# Altium footprint library 61200621621.PcbLib: 1 footprints
Each footprint in its own frame and in the unit in brackets; x right, y up, seen from the top. Pads: shape width x height; smd on the part's side, far side on the other; paste and mask are expansions set on the pad; w line width, h text height; cw(c..) or ccw(c..) is an arc to the next point about the centre after c.
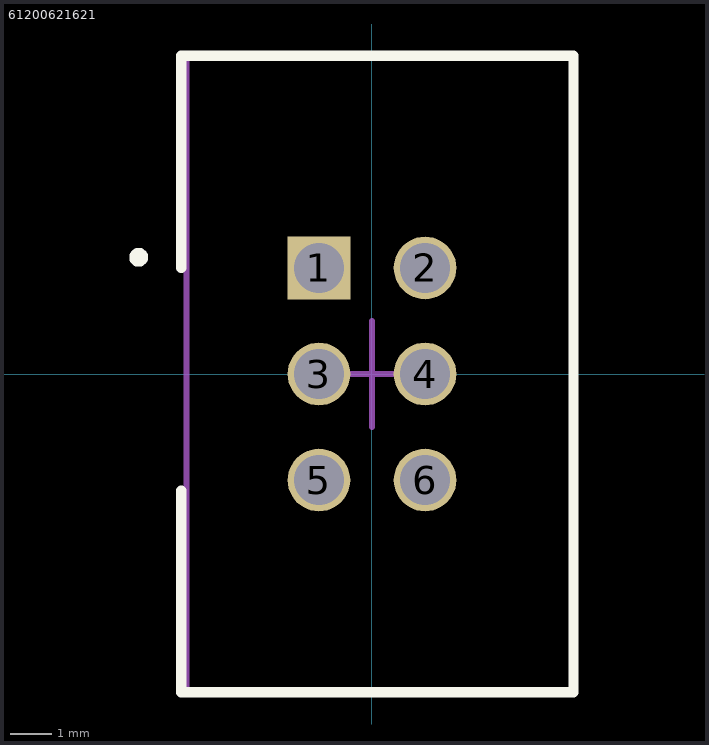
[diagram p0: the footprint, top view; thin cyan lines are the x and y axes]

## 61200621621 [mm]
pads (6):
  rect 1.5x1.5 hole 1.2 mask+0.051: 1(-1.27,2.54)
  round 1.5 hole 1.2 mask+0.051: 2(1.27,2.54) 3(-1.27,0) 4(1.27,0) 5(-1.27,-2.54) 6(1.27,-2.54)
Top Overlay:
  circle w0.25: c-5.588,2.794 r0.1
  lines w0.25: -4.572,-2.794 -4.572,-7.62 4.826,-7.62 4.826,7.62 -4.572,7.62 -4.572,2.54
Mechanical 13:
  lines w0.15: -4.445,-7.62 4.826,-7.62 4.826,7.62 -4.445,7.62 -4.445,-7.62
Mechanical 15:
  lines w0.15: -1.27,0 0,0 ; 0,0 0,1.27 0,0 ; 0,0 1.27,0 0,0 ; 0,0 0,-1.27 0,0
3D body "61200621621.stp": height 8.86, standoff -3.24, extent -4.425,-7.64 4.748,7.64